# Altium footprint library chip.PcbLib: 28 footprints (part 1 of 2)
Each footprint in its own frame and in the unit in brackets; x right, y up, seen from the top. Pads: shape width x height; smd on the part's side, far side on the other; paste and mask are expansions set on the pad; w line width, h text height; cw(c..) or ccw(c..) is an arc to the next point about the centre after c.
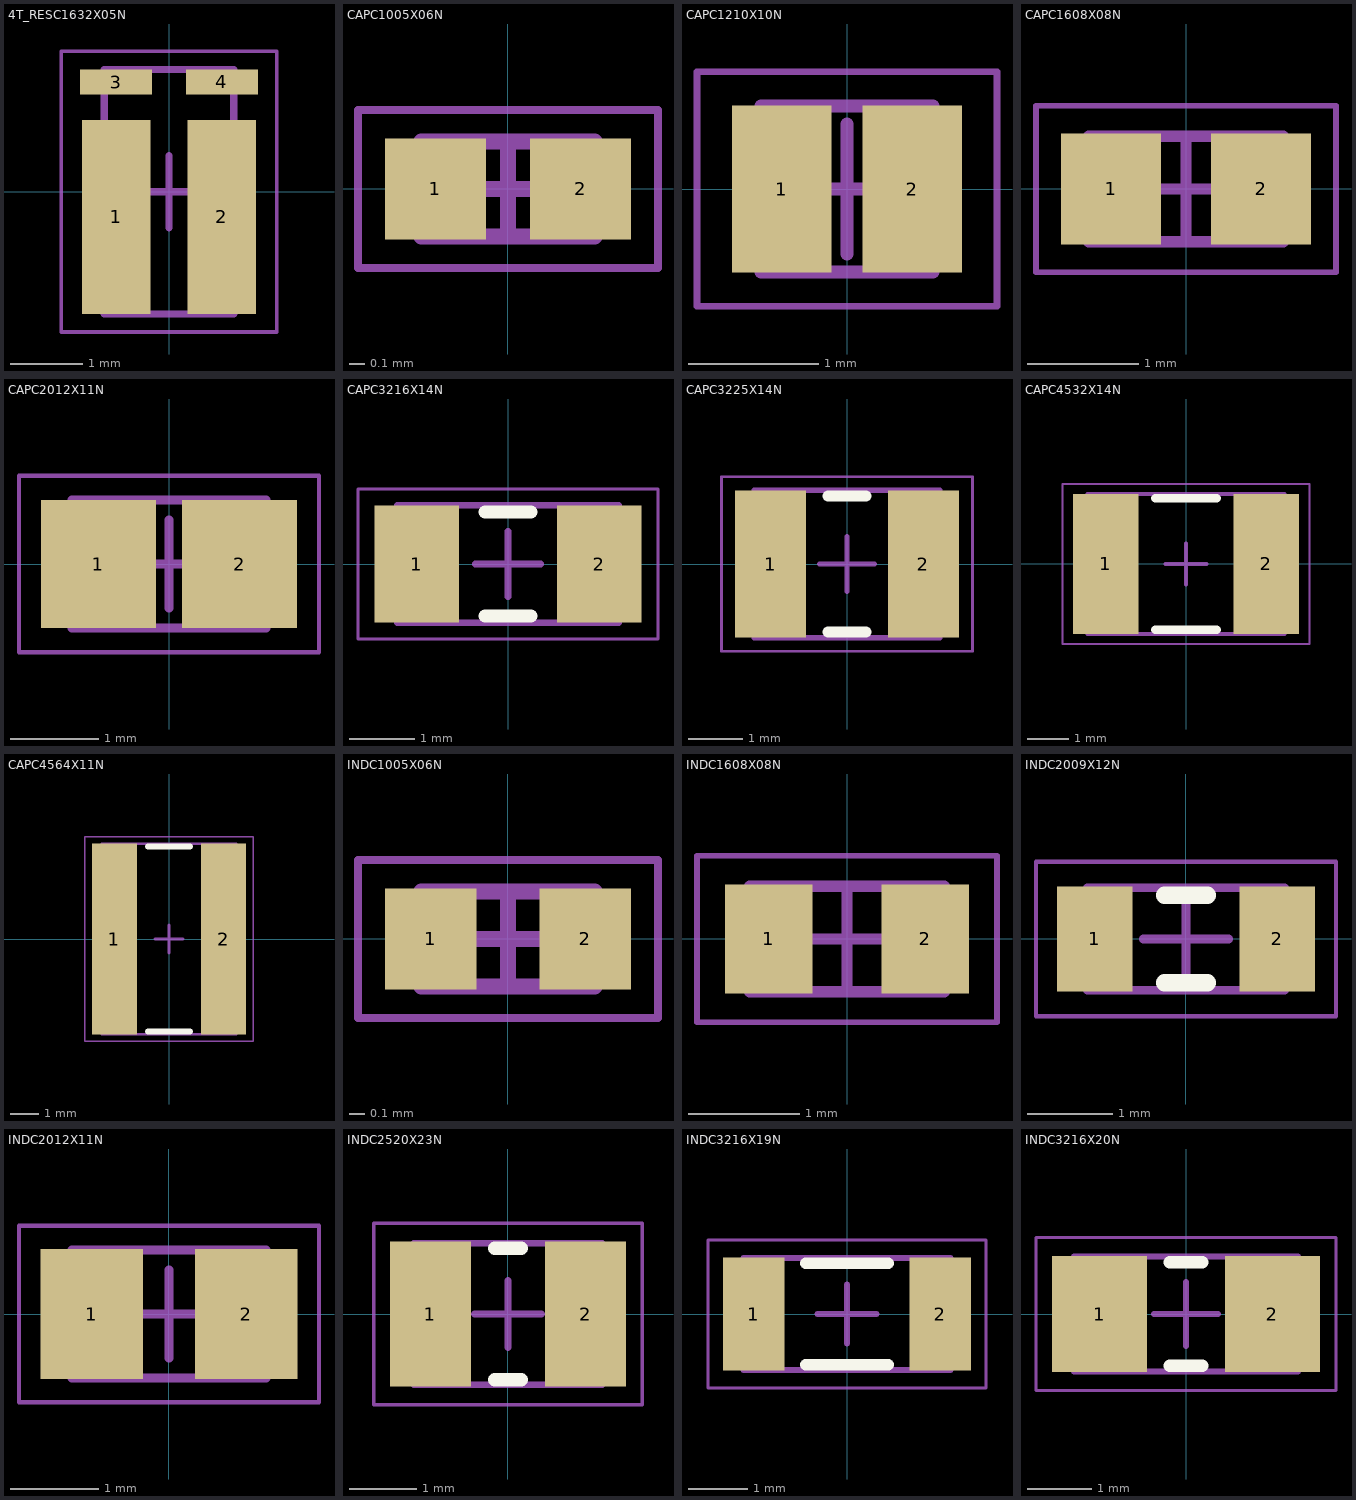
[diagram p0: the footprints below, top view; thin cyan lines are the x and y axes]

## 4T_RESC1632X05N [mm] "Chip Resistor, 4-Leads, Body 1,60x3,20mm, IPC Medium Density"
height 0.5
pads (4):
  rect 0.95x2.7 smd: 1(-0.735,-0.35) 2(0.735,-0.35)
  rect 1x0.35 smd: 3(-0.735,1.524) 4(0.735,1.525)
Mechanical 13:
  lines w0.1: -0.9,-1.7 -0.9,1.7 0.9,1.7 0.9,-1.7 -0.9,-1.7
Mechanical 15:
  lines w0.05: -1.5,-1.95 -1.5,1.95 1.5,1.95 1.5,-1.95 -1.5,-1.95
  lines w0.1: -0.5,0 0.5,0 ; 0,-0.5 0,0.5
3D body "RESC1632X05N.step": height 0.5, standoff 0, extent -0.9,-1.7 0.9,1.7

## CAPC1005X06N [mm] "Chip Capacitor, 2-Leads, Body 1.00x0.50mm, IPC Medium Density"
height 0.6
pads (2):
  rect 0.64x0.64 smd: 1(-0.46,0) 2(0.46,0)
Mechanical 13:
  lines w0.1: -0.55,-0.3 -0.55,0.3 0.55,0.3 0.55,-0.3 -0.55,-0.3
Mechanical 15:
  lines w0.05: -0.95,-0.5 -0.95,0.5 0.95,0.5 0.95,-0.5 -0.95,-0.5
  lines w0.1: -0.3,0 0.3,0 ; 0,-0.3 0,0.3
3D body "CAPC1005X06N.step": height 0.6, standoff 0, extent -0.55,-0.3 0.55,0.3

## CAPC1210X10N [mm] "Chip Capacitor, 2-Leads, Body 1.17x1.02mm, IPC Medium Density"
height 1.02
pads (2):
  rect 0.76x1.28 smd: 1(-0.5,0) 2(0.5,0)
Mechanical 13:
  lines w0.1: -0.66,-0.635 0.66,-0.635 0.66,0.635 -0.66,0.635 -0.66,-0.635
Mechanical 15:
  lines w0.05: -1.15,-0.9 1.15,-0.9 1.15,0.9 -1.15,0.9 -1.15,-0.9
  lines w0.1: -0.5,0 0.5,0 ; 0,-0.5 0,0.5
3D body "CAPC1210X10N.step": height 1.02, standoff 0, extent -0.66,-0.635 0.66,0.635

## CAPC1608X08N [mm] "Chip Capacitor, 2-Leads, Body 1.60x0.80mm, IPC Medium Density"
height 0.85
pads (2):
  rect 0.9x1 smd: 1(-0.675,0) 2(0.675,0)
Mechanical 13:
  lines w0.1: -0.875,-0.475 0.875,-0.475 0.875,0.475 -0.875,0.475 -0.875,-0.475
Mechanical 15:
  lines w0.05: -1.35,-0.75 1.35,-0.75 1.35,0.75 -1.35,0.75 -1.35,-0.75
  lines w0.1: -0.475,0 0.475,0 ; 0,-0.475 0,0.475
3D body "CAPC1608X08N.step": height 0.85, standoff 0, extent -0.875,-0.475 0.875,0.475

## CAPC2012X11N [mm] "Chip Capacitor, 2-Leads, Body 2.00x1.25mm, IPC Medium Density"
height 1.1
pads (2):
  rect 1.3x1.45 smd: 1(-0.8,0) 2(0.8,0)
Mechanical 13:
  lines w0.1: -1.1,-0.725 1.1,-0.725 1.1,0.725 -1.1,0.725 -1.1,-0.725
Mechanical 15:
  lines w0.05: -1.7,-1 1.7,-1 1.7,1 -1.7,1 -1.7,-1
  lines w0.1: -0.5,0 0.5,0 ; 0,-0.5 0,0.5
3D body "CAPC2012X11N.step": height 1.1, standoff 0, extent -1.1,-0.725 1.1,0.725

## CAPC3216X14N [mm] "Chip Capacitor, 2-Leads, Body 3.20x1.60mm, IPC Medium Density"
height 1.35
pads (2):
  rect 1.3x1.8 smd: 1(-1.4,0) 2(1.4,0)
Top Overlay:
  lines w0.2: -0.35,-0.8 0.35,-0.8 ; -0.35,0.8 0.35,0.8
Mechanical 13:
  lines w0.1: -1.7,-0.9 1.7,-0.9 1.7,0.9 -1.7,0.9 -1.7,-0.9
Mechanical 15:
  lines w0.05: -2.3,-1.15 2.3,-1.15 2.3,1.15 -2.3,1.15 -2.3,-1.15
  lines w0.1: -0.5,0 0.5,0 ; 0,-0.5 0,0.5
3D body "CAPC3216X14N.step": height 1.35, standoff 0, extent -1.7,-0.9 1.7,0.9

## CAPC3225X14N [mm] "Chip Capacitor, 2-Leads, Body 3.20x2.50mm, IPC Medium Density"
height 1.35
pads (2):
  rect 1.3x2.7 smd: 1(-1.4,0) 2(1.4,0)
Top Overlay:
  lines w0.2: -0.35,-1.25 0.35,-1.25 ; -0.35,1.25 0.35,1.25
Mechanical 13:
  lines w0.1: -1.7,-1.35 1.7,-1.35 1.7,1.35 -1.7,1.35 -1.7,-1.35
Mechanical 15:
  lines w0.05: -2.3,-1.6 2.3,-1.6 2.3,1.6 -2.3,1.6 -2.3,-1.6
  lines w0.1: -0.5,0 0.5,0 ; 0,-0.5 0,0.5
3D body "CAPC3225X14N.step": height 1.35, standoff 0, extent -1.7,-1.35 1.7,1.35

## CAPC4532X14N [mm] "Chip Capacitor, 2-Leads, Body 4.50x3.20mm, IPC Medium Density"
height 1.35
pads (2):
  rect 1.6x3.4 smd: 1(-1.95,0) 2(1.95,0)
Top Overlay:
  lines w0.2: -0.75,-1.6 0.75,-1.6 ; -0.75,1.6 0.75,1.6
Mechanical 13:
  lines w0.1: -2.4,-1.7 2.4,-1.7 2.4,1.7 -2.4,1.7 -2.4,-1.7
Mechanical 15:
  lines w0.05: -3,-1.95 3,-1.95 3,1.95 -3,1.95 -3,-1.95
  lines w0.1: -0.5,0 0.5,0 ; 0,-0.5 0,0.5
3D body "CAPC4532X14N.step": height 1.35, standoff 0, extent -2.4,-1.7 2.4,1.7

## CAPC4564X11N [mm] "Chip Capacitor, 2-Leads, Body 4.50x6.40mm, IPC Medium Density"
height 1.1
pads (2):
  rect 1.6x6.8 smd: 1(-1.95,0) 2(1.95,0)
Top Overlay:
  lines w0.2: -0.75,-3.3 0.75,-3.3 ; -0.75,3.3 0.75,3.3
Mechanical 13:
  lines w0.1: -2.4,-3.4 2.4,-3.4 2.4,3.4 -2.4,3.4 -2.4,-3.4
Mechanical 15:
  lines w0.05: -3,-3.65 3,-3.65 3,3.65 -3,3.65 -3,-3.65
  lines w0.1: -0.5,0 0.5,0 ; 0,-0.5 0,0.5
3D body "CAPC4564X11N.step": height 1.1, standoff 0, extent -2.4,-3.4 2.4,3.4

## INDC1005X06N [mm] "Chip Inductor, 2-Leads, Body 1.00x0.50mm, IPC Medium Density"
height 0.6
pads (2):
  rect 0.58x0.64 smd: 1(-0.49,0) 2(0.49,0)
Mechanical 13:
  lines w0.1: -0.55,-0.3 0.55,-0.3 0.55,0.3 -0.55,0.3 -0.55,-0.3
Mechanical 15:
  lines w0.05: -0.95,-0.5 0.95,-0.5 0.95,0.5 -0.95,0.5 -0.95,-0.5
  lines w0.1: -0.3,0 0.3,0 ; 0,-0.3 0,0.3
3D body "INDC1005X06N.step": height 0.6, standoff 0, extent -0.55,-0.3 0.55,0.3

## INDC1608X08N [mm] "Chip Inductor, 2-Leads, Body 1.60x0.80mm, IPC Medium Density"
height 0.85
pads (2):
  rect 0.79x0.98 smd: 1(-0.705,0) 2(0.705,0)
Mechanical 13:
  lines w0.1: -0.875,-0.475 0.875,-0.475 0.875,0.475 -0.875,0.475 -0.875,-0.475
Mechanical 15:
  lines w0.05: -1.35,-0.75 1.35,-0.75 1.35,0.75 -1.35,0.75 -1.35,-0.75
  lines w0.1: -0.475,0 0.475,0 ; 0,-0.475 0,0.475
3D body "INDC1608X08N.step": height 0.85, standoff 0, extent -0.875,-0.475 0.875,0.475

## INDC2009X12N [mm] "Chip Inductor, 2-Leads, Body 2.00x0.90mm, IPC Medium Density"
height 1.2
pads (2):
  rect 0.88x1.22 smd: 1(-1.065,0) 2(1.065,0)
Top Overlay:
  lines w0.2: -0.25,-0.51 0.25,-0.51 ; -0.25,0.51 0.25,0.51
Mechanical 13:
  lines w0.1: -1.15,-0.6 1.15,-0.6 1.15,0.6 -1.15,0.6 -1.15,-0.6
Mechanical 15:
  lines w0.05: -1.75,-0.9 1.75,-0.9 1.75,0.9 -1.75,0.9 -1.75,-0.9
  lines w0.1: -0.5,0 0.5,0 ; 0,-0.5 0,0.5
3D body "INDC2009X12N.step": height 1.2, standoff 0, extent -1.15,-0.6 1.15,0.6

## INDC2012X11N [mm] "Chip Inductor, 2-Leads, Body 2.00x1.25mm, IPC Medium Density"
height 1.1
pads (2):
  rect 1.16x1.47 smd: 1(-0.875,0) 2(0.875,0)
Mechanical 13:
  lines w0.1: -1.1,-0.725 1.1,-0.725 1.1,0.725 -1.1,0.725 -1.1,-0.725
Mechanical 15:
  lines w0.05: -1.7,-1 1.7,-1 1.7,1 -1.7,1 -1.7,-1
  lines w0.1: -0.5,0 0.5,0 ; 0,-0.5 0,0.5
3D body "INDC2012X11N.step": height 1.1, standoff 0, extent -1.1,-0.725 1.1,0.725

## INDC2520X23N [mm] "Chip Inductor, 2-Leads, Body 2.50x2.03mm, IPC Medium Density"
height 2.29
pads (2):
  rect 1.2x2.16 smd: 1(-1.155,0) 2(1.155,0)
Top Overlay:
  lines w0.2: -0.2,-0.98 0.2,-0.98 ; -0.2,0.98 0.2,0.98
Mechanical 13:
  lines w0.1: -1.4,-1.055 1.4,-1.055 1.4,1.055 -1.4,1.055 -1.4,-1.055
Mechanical 15:
  lines w0.05: -2,-1.35 2,-1.35 2,1.35 -2,1.35 -2,-1.35
  lines w0.1: -0.5,0 0.5,0 ; 0,-0.5 0,0.5
3D body "INDC2520X23N.step": height 2.29, standoff 0, extent -1.4,-1.055 1.4,1.055

## INDC3216X19N [mm] "Chip Inductor, 2-Leads, Body 3.20x1.60mm, IPC Medium Density"
height 1.9
pads (2):
  rect 1.04x1.92 smd: 1(-1.58,0) 2(1.58,0)
Top Overlay:
  lines w0.2: -0.7,-0.86 0.7,-0.86 ; -0.7,0.86 0.7,0.86
Mechanical 13:
  lines w0.1: -1.75,-0.95 1.75,-0.95 1.75,0.95 -1.75,0.95 -1.75,-0.95
Mechanical 15:
  lines w0.05: -2.35,-1.25 2.35,-1.25 2.35,1.25 -2.35,1.25 -2.35,-1.25
  lines w0.1: -0.5,0 0.5,0 ; 0,-0.5 0,0.5
3D body "INDC3216X19N.step": height 1.9, standoff 0, extent -1.75,-0.95 1.75,0.95

## INDC3216X20N [mm] "Chip Inductor, 2-Leads, Body 3.20x1.60mm, IPC Medium Density"
height 2
pads (2):
  rect 1.49x1.82 smd: 1(-1.355,0) 2(1.355,0)
Top Overlay:
  lines w0.2: -0.25,-0.81 0.25,-0.81 ; -0.25,0.81 0.25,0.81
Mechanical 13:
  lines w0.1: -1.75,-0.9 1.75,-0.9 1.75,0.9 -1.75,0.9 -1.75,-0.9
Mechanical 15:
  lines w0.05: -2.35,-1.2 2.35,-1.2 2.35,1.2 -2.35,1.2 -2.35,-1.2
  lines w0.1: -0.5,0 0.5,0 ; 0,-0.5 0,0.5
3D body "INDC3216X20N.step": height 2, standoff 0, extent -1.75,-0.9 1.75,0.9